# Altium footprint library LP6.PcbLib: 1 footprints
Each footprint in its own frame and in the unit in brackets; x right, y up, seen from the top. Pads: shape width x height; smd on the part's side, far side on the other; paste and mask are expansions set on the pad; w line width, h text height; cw(c..) or ccw(c..) is an arc to the next point about the centre after c.
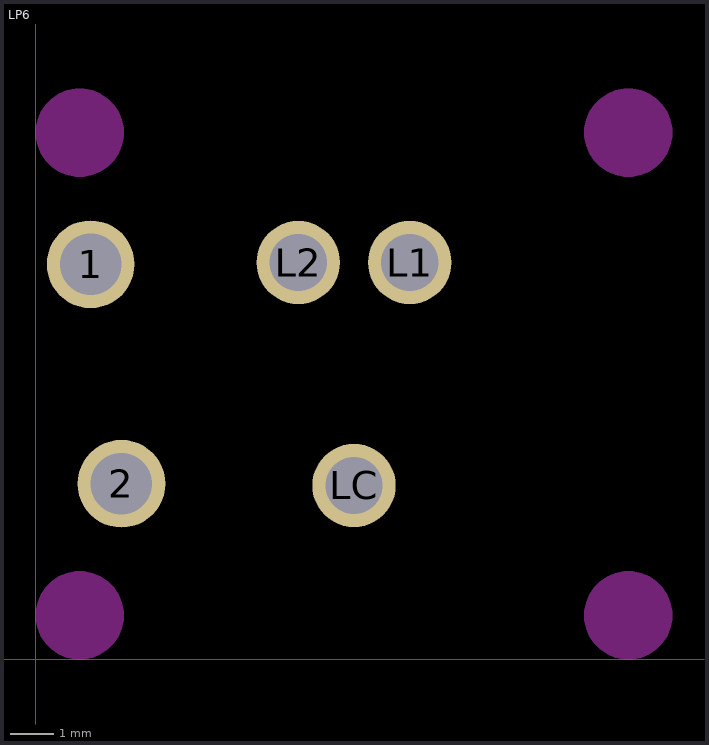
[diagram p0: the footprint, top view; thin cyan lines are the x and y axes]

## LP6 [mm]
pads (5):
  round 2 hole 1.4: 1(1.25,9) 2(1.95,4)
  round 1.9 hole 1.3: L1(8.52,9.04) L2(5.98,9.04) LC(7.25,3.96)
Keep-Out Layer:
  board cut-out: 0,1 0,0.902 0.038,0.708 0.114,0.526 0.223,0.363 0.363,0.223 0.526,0.114 0.708,0.038 0.901,0 1,0 1.098,0 1.292,0.038 1.474,0.114 1.637,0.223 1.777,0.363 1.886,0.526 1.962,0.708 2,0.902 2,1 2,1.098 1.962,1.292 1.886,1.474 1.777,1.637 1.637,1.777 1.474,1.886 1.292,1.962 1.098,2 1,2 0.902,2 0.708,1.962 0.526,1.886 0.363,1.777 0.223,1.637 0.114,1.474 0.038,1.292 0,1.098
  board cut-out: 12.5,1 12.5,0.902 12.538,0.708 12.614,0.526 12.723,0.363 12.863,0.223 13.026,0.114 13.208,0.038 13.401,0 13.5,0 13.598,0 13.792,0.038 13.974,0.114 14.137,0.223 14.277,0.363 14.386,0.526 14.462,0.708 14.5,0.902 14.5,1 14.5,1.098 14.462,1.292 14.386,1.474 14.277,1.637 14.137,1.777 13.974,1.886 13.792,1.962 13.598,2 13.5,2 13.402,2 13.208,1.962 13.026,1.886 12.863,1.777 12.723,1.637 12.614,1.474 12.538,1.292 12.5,1.098
  board cut-out: 12.5,12 12.5,11.902 12.538,11.708 12.614,11.526 12.723,11.363 12.863,11.223 13.026,11.114 13.208,11.038 13.401,11 13.5,11 13.598,11 13.792,11.038 13.974,11.114 14.137,11.223 14.277,11.363 14.386,11.526 14.462,11.708 14.5,11.902 14.5,12 14.5,12.098 14.462,12.292 14.386,12.474 14.277,12.637 14.137,12.777 13.974,12.886 13.792,12.962 13.598,13 13.5,13 13.402,13 13.208,12.962 13.026,12.886 12.863,12.777 12.723,12.637 12.614,12.474 12.538,12.292 12.5,12.098
  board cut-out: 0,12 0,11.902 0.038,11.708 0.114,11.526 0.223,11.363 0.363,11.223 0.526,11.114 0.708,11.038 0.901,11 1,11 1.098,11 1.292,11.038 1.474,11.114 1.637,11.223 1.777,11.363 1.886,11.526 1.962,11.708 2,11.902 2,12 2,12.098 1.962,12.292 1.886,12.474 1.777,12.637 1.637,12.777 1.474,12.886 1.292,12.962 1.098,13 1,13 0.902,13 0.708,12.962 0.526,12.886 0.363,12.777 0.223,12.637 0.114,12.474 0.038,12.292 0,12.098
3D body "LP6OA1ASxx.stp": height 19.7, standoff -4.5, extent -0.45,-0.95 15.05,14.55